# Altium footprint library task_PcbLib.PcbLib: 5 footprints
Each footprint in its own frame and in the unit in brackets; x right, y up, seen from the top. Pads: shape width x height; smd on the part's side, far side on the other; paste and mask are expansions set on the pad; w line width, h text height; cw(c..) or ccw(c..) is an arc to the next point about the centre after c.
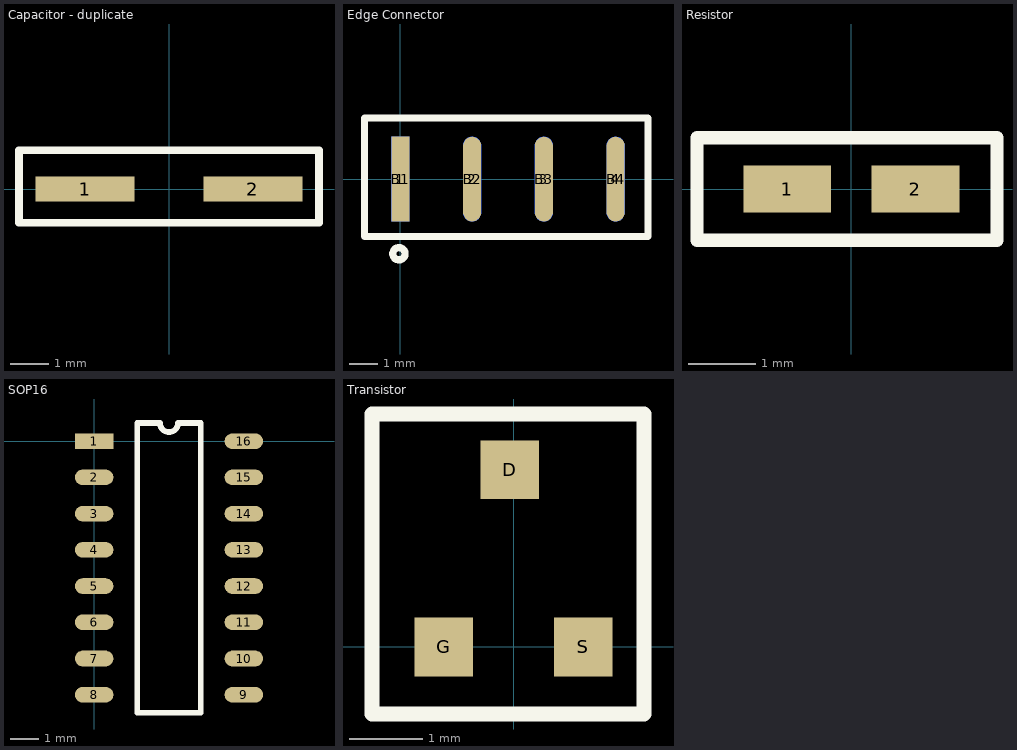
[diagram p0: the footprints below, top view; thin cyan lines are the x and y axes]

## Capacitor - duplicate [mm]
pads (2):
  rect 2.6x0.65 smd: 1(-2.2,0) 2(2.2,0)
Top Overlay:
  lines w0.2: -3.937,-0.889 3.937,-0.889 3.937,1.016 -3.937,1.016 -3.937,-0.889
3D body "EEEFKC151XAL.STEP": height 7.7, standoff 0, extent -3.65,-3.3 3.65,3.3

## Edge Connector [mm]
pads (8):
  rect 0.64x3 smd: 1(0,0)
  oval 0.64x3 smd: 2(2.54,0) 3(5.08,0) 4(7.62,0)
  rect 0.64x3 smd far side: B1(0,0)
  oval 0.64x3 smd far side: B2(2.54,0) B3(5.08,0) B4(7.62,0)
Top Overlay:
  circle w0.254: c-0.051,-2.642 r0.217
  lines w0.254: -1.27,-2.032 8.763,-2.032 8.763,2.159 -1.27,2.159 -1.27,-2.032
3D body "PR20204VBNN--3DModel-STEP-269445.STEP": height 8.6, standoff -3, extent -1.27,-1.123 8.89,1.377

## Resistor [mm]
pads (2):
  rect 1.3x0.7 smd: 1(-0.95,0) 2(0.95,0)
Top Overlay:
  lines w0.2: -2.286,-0.762 -2.286,0.762 2.159,0.762 2.159,-0.762 -2.286,-0.762
3D body "RC0805FR-071KL.STEP": height 0.6, standoff 0, extent -1,-0.625 1,0.625

## SOP16 [mm]
pads (16):
  rect 1.35x0.55 smd: 1(0,0)
  oval 1.35x0.55 smd: 2(0,-1.27) 3(0,-2.54) 4(0,-3.81) 5(0,-5.08) 6(0,-6.35) 7(0,-7.62) 8(0,-8.89) 9(5.25,-8.89) 10(5.25,-7.62) 11(5.25,-6.35) 12(5.25,-5.08) 13(5.25,-3.81) 14(5.25,-2.54) 15(5.25,-1.27) 16(5.25,0)
Top Overlay:
  lines w0.2: 1.51,-9.525 3.74,-9.525 3.74,0.635 2.942,0.635 cw(c2.625,0.635) 2.307,0.635 1.51,0.635 1.51,-9.525
3D body "HX711--3DModel-STEP-56544.STEP": height 1.6, standoff 0, extent -0.46,-9.395 5.54,0.505

## Transistor [mm]
pads (3):
  rect 0.8x0.8 smd: D(-0.051,2.413) G(-0.95,0) S(0.95,0)
Top Overlay:
  lines w0.2: -1.93,-0.914 -1.93,3.175 1.778,3.175 1.778,-0.914 -1.93,-0.914
3D body "PMV20EN.STEP": height 1.1, standoff 0, extent -1.475,0.095 1.425,2.395